# Altium footprint library CustomParts.PcbLib: 113 footprints (part 7 of 8)
Each footprint in its own frame and in the unit in brackets; x right, y up, seen from the top. Pads: shape width x height; smd on the part's side, far side on the other; paste and mask are expansions set on the pad; w line width, h text height; cw(c..) or ccw(c..) is an arc to the next point about the centre after c.
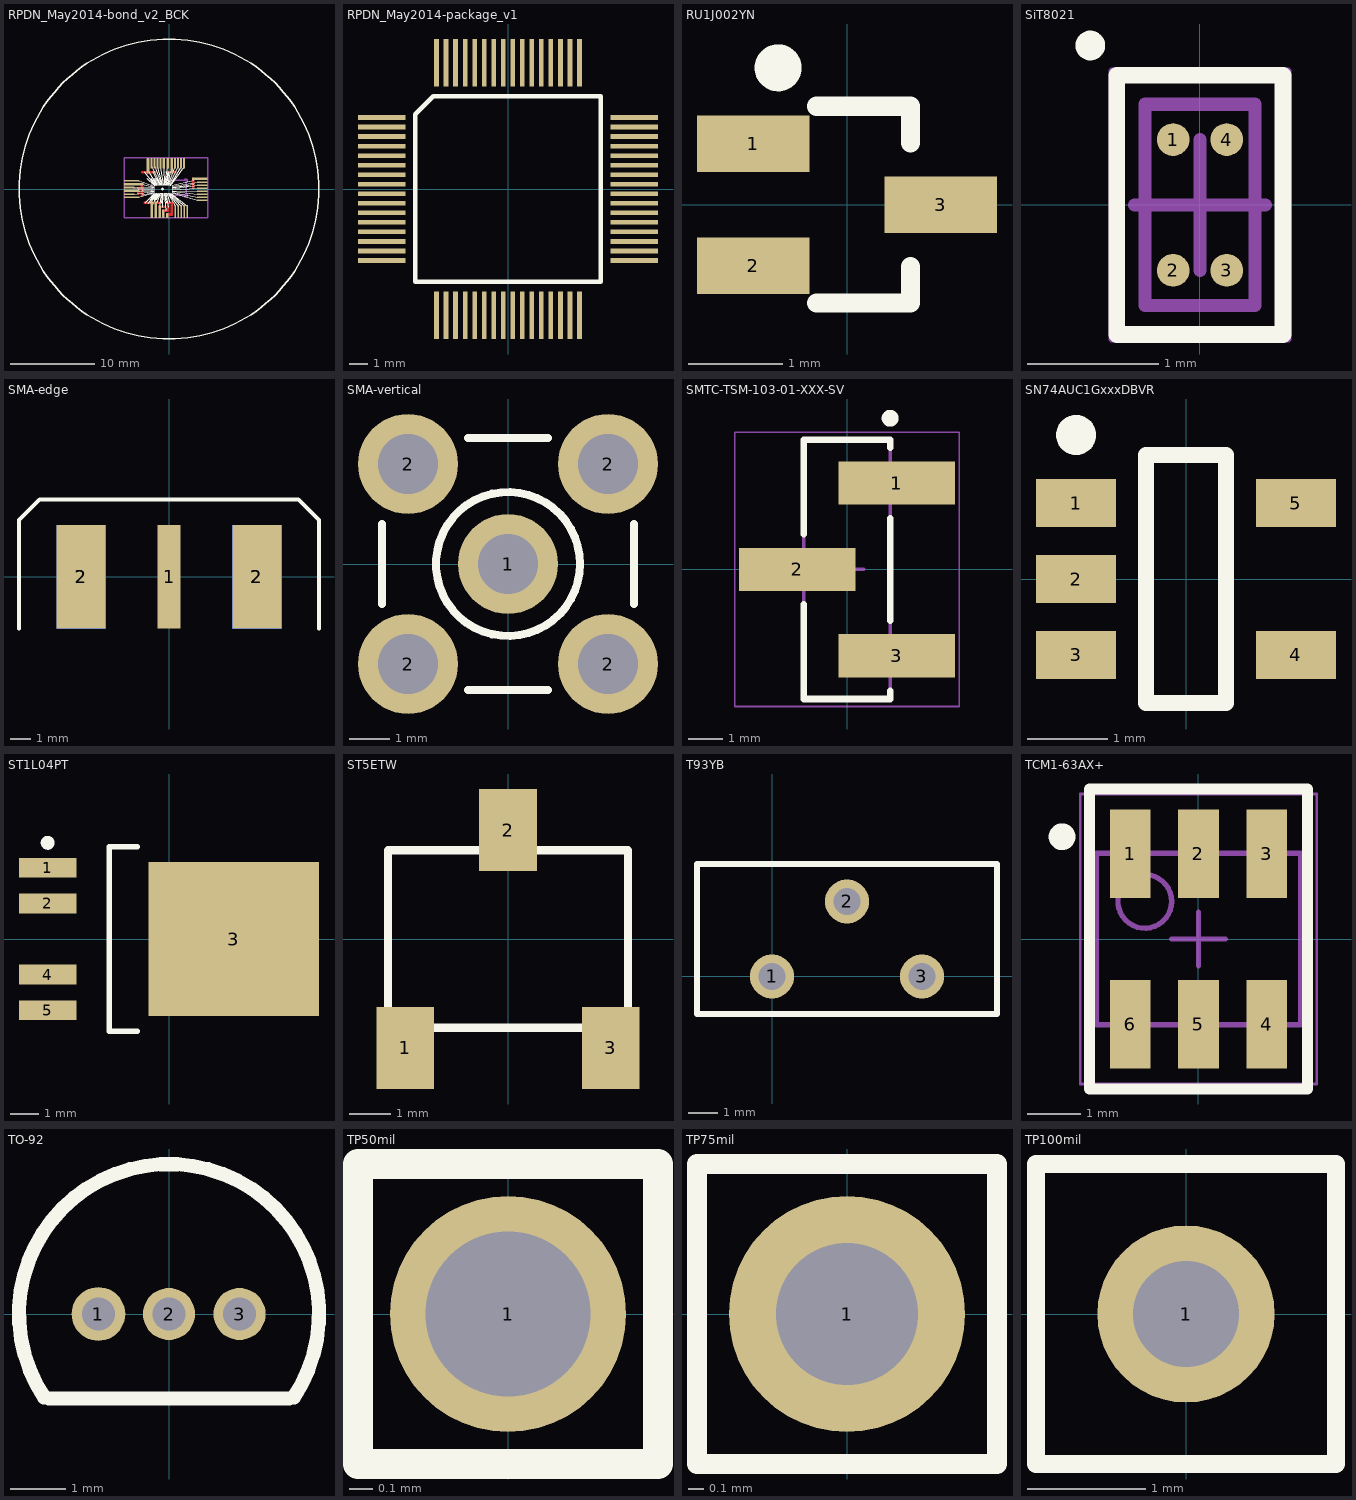
[diagram p6: the footprints below, top view; thin cyan lines are the x and y axes]

## RPDN_May2014-bond_v2_BCK [mil]
pads (96):
  rrect50% 3.15x3.15 on Mech13 paste+0 mask+0: 1(-70,17) 2(-70,13.06) 3(-70,9.13) 4(-70,5.19) 5(-70,1.25) 6(-70,-2.69) 7(-70,-6.62) 8(-70,-10.56) 9(-70,-14.5) 10(-70,-18.43) 11(-66.06,-18.43) 12(-62.13,-18.43) 13(-58.19,-18.43) 14(-54.25,-18.43) 15(-50.31,-18.43) 16(-46.38,-18.43) 17(-42.44,-18.43) 18(-38.5,-18.43) 19(-34.57,-18.43) 20(-30.63,-18.43) 21(-26.69,-18.43) 22(-22.76,-18.43) 23(-18.82,-18.43) 24(-14.88,-18.43) 25(-10.94,-18.43) 26(-7.01,-18.43) 27(-3.07,-18.43) 28(0.87,-18.43) 29(4.8,-18.43) 30(8.74,-18.43) 31(13.46,-18.43) 32(13.46,-14.5) 33(13.46,-10.56) 34(13.46,-6.62) 35(13.46,-2.69) 36(13.46,1.25) 37(13.46,5.19) 38(13.46,9.13) 39(13.46,13.06) 40(13.46,17) 41(8.74,17) 42(4.8,17) 43(0.87,17) 44(-3.07,17) 45(-7.01,17) 46(-10.94,17) 47(-14.88,17) 48(-18.82,17) 49(-22.76,17) 50(-26.69,17) 51(-30.63,17) 52(-34.57,17) 53(-38.5,17) 54(-42.44,17) 55(-46.38,17) 56(-50.31,17) 57(-54.25,17) 58(-58.19,17) 59(-62.13,17) 60(-66.06,17)
  rrect50% 70x8 smd mask+0: 2(-175,39) 10(-175,-39)
  rrect50% 90x12 smd mask+0: 3(-165,23)
  rrect50% 50x8 smd mask+0: 4(-185,7) 8(-185,-25) 31(155,-52) 32(155,-38) 33(155,-24) 34(155,-10) 35(155,4) 36(155,18) 39(155,32)
  rrect50% 72x12 smd mask+0: 5(-174,-9) 38(144,48)
  rrect50% 12x76 smd mask+0: 11(-80,-97) 18(-62,-97)
  rrect50% 12x58 smd mask+0: 19(-44,-106)
  rrect50% 12x40 smd mask+0: 22(-26,-115)
  rrect50% 12x22 smd mask+0: 23(-8,-124)
  rrect50% 8x60 smd mask+0: 26(29,-105) 27(43,-105) 28(57,-105) 29(71,-105) 30(85,-105)
  rrect50% 8x50 smd mask+0: 41(70,120) 42(56,120) 43(42,120) 44(28,120) 50(-40,120) 51(-54,120) 52(-68,120) 53(-82,120)
  rrect50% 12x72 smd mask+0: 45(12,109) 55(-98,109)
  rrect50% 12x50 smd mask+0: 48(-6,120) 49(-24,120)
Top Layer:
  lines w12: -144,-22 -144,4 ; -126,-28 -126,23 ; -125,79 -65,79 ; -113,-65 -80,-65 ; -62,-65 -31,-65 ; -44,-83 -25,-83 ; -26,-101 -5,-101 -5,-83 ; -12,79 28,79 ; -11,-65 13,-65 13,-119 -8,-119 ; 114,6 114,48
Top Overlay:
  circle w6: c0,0 r700
  circle w6: c-30,0 r3
  lines w1.5: -165,-24 -70,-11 ; -165,7 -70,5 ; -145,-39 -70,-18 ; -145,40 -70,13 ; -144,-11 -70,-7 ; -144,0 -70,1 ; -126,-5 -70,-3 ; -126,22 -70,9 ; -125,-27 -70,-14 ; -115,80 -66,17 ; -112,-65 -66,-19 ; -105,50 -70,17 ; -96,-66 -58,-19 ; -95,80 -58,17 ; -88,-49 -62,-19 ; -86,-65 -54,-19 ; -85,50 -62,17 ; -81,105 -39,17 ; -79,-75 -46,-19 ; -77,80 -46,17 ; -72,50 -54,17 ; -69,-50 -50,-19 ; -67,50 -50,17 ; -67,105 -35,17 ; -58,50 -42,17 ; -57,-50 -42,-19 ; -55,-65 -38,-19 ; -54,105 -31,17 ; -44,-84 -34,-19 ; -40,105 -27,17 ; -35,-65 -30,-19 ; -30,-84 -26,-19 ; -24,105 -23,17 ; -22,-19 -15,-101 ; -19,-19 -12,-65 ; -19,17 -6,105 ; -15,-19 -4,-85 ; -15,17 -4,80 ; -11,-19 4,-65 ; -11,17 2,80 ; -7,-19 29,-80 ; -7,17 9,80 ; -3,-19 43,-80 ; -3,17 28,105 ; 1,-19 58,-80 ; 1,17 42,105 ; 5,-19 71,-80 ; 5,17 56,105 ; 9,-19 85,-80 ; 9,17 70,105 ; 14,-18 135,-52 ; 14,-15 135,-38 ; 14,-11 135,-24 ; 14,-7 135,-10 ; 14,-3 135,4 ; 14,1 135,17 ; 14,5 90,15 ; 14,9 115,23 ; 14,13 135,32 ; 14,17 115,40
Top Solder:
  rectangle: 83,-19 89,28
  rectangle: 68,-33 83,43
  rectangle: 68,-135 89,-39
  rectangle: 68,49 89,145
  rectangle: -210,-135 68,145
  rectangle: 89,-135 180,145
Mechanical 13:
  lines w6: 71,-36 86,-36 86,-21 ; 71,46 86,46 86,31 ; -210,-135 180,-135 180,145 -210,145 -210,-135 ; -80,-30 -80,40 80,40 80,-30 -80,-30

## RPDN_May2014-package_v1 [mil]
pads (64):
  rect 100x10 smd mask+6: 1(-265,150) 2(-265,130) 3(-265,110) 4(-265,90) 5(-265,70) 6(-265,50) 7(-265,30) 8(-265,10) 9(-265,-10) 10(-265,-30) 11(-265,-50) 12(-265,-70) 13(-265,-90) 14(-265,-110) 15(-265,-130) 16(-265,-150) 33(265,-150) 34(265,-130) 35(265,-110) 36(265,-90) 37(265,-70) 38(265,-50) 39(265,-30) 40(265,-10) 41(265,10) 42(265,30) 43(265,50) 44(265,70) 45(265,90) 46(265,110) 47(265,130) 48(265,150)
  rect 10x100 smd mask+6: 17(-150,-265) 18(-130,-265) 19(-110,-265) 20(-90,-265) 21(-70,-265) 22(-50,-265) 23(-30,-265) 24(-10,-265) 25(10,-265) 26(30,-265) 27(50,-265) 28(70,-265) 29(90,-265) 30(110,-265) 31(130,-265) 32(150,-265) 49(150,265) 50(130,265) 51(110,265) 52(90,265) 53(70,265) 54(50,265) 55(30,265) 56(10,265) 57(-10,265) 58(-30,265) 59(-50,265) 60(-70,265) 61(-90,265) 62(-110,265) 63(-130,265) 64(-150,265)
Top Overlay:
  lines w10: -195,-195 195,-195 195,195 -157,195 -195,157 -195,-195

## RU1J002YN [mm] "MOSFET N-Channel, Logic Level, 0.9 V Drive, UMT3F Package"
height 1.05
pads (3):
  rect 1.2x0.6 smd: 1(-1,0.65) 2(-1,-0.65) 3(1,0)
Top Overlay:
  circle w0.25: c-0.735,1.46 r0.125
  lines w0.203: -0.325,-1.05 0.675,-1.05 0.675,-0.66 ; -0.325,1.05 0.675,1.05 0.675,0.66
3D body: height 1.05, standoff 0, extent -0.675,-1.05 0.675,1.05

## SiT8021 [mm] "BGA, 4-Leads, Body 0.84x1.54mmx0.60mm, Pitch 0.41mm"
height 0.6
pads (4):
  round 0.25 smd mask+0.05: 1(-0.205,0.5) 2(-0.205,-0.5) 3(0.205,-0.5) 4(0.205,0.5)
Top Overlay:
  circle w0.127: c-0.838,1.219 r0.05
  lines w0.127: -0.635,-0.991 0.635,-0.991 0.635,0.991 -0.635,0.991 -0.635,-0.991
Mechanical 13:
  lines w0.1: -0.42,-0.77 0.42,-0.77 0.42,0.77 -0.42,0.77 -0.42,-0.77
Mechanical 15:
  lines w0.05: -0.675,-1.025 0.675,-1.025 0.675,1.025 -0.675,1.025 -0.675,-1.025
  lines w0.1: -0.5,0 0.5,0 ; 0,-0.5 0,0.5
3D body "SiT8021_2.step": height 0.6, standoff 0, extent -0.42,-0.77 0.42,0.77

## SMA-edge [mil]
pads (5):
  rect 45x200 smd: 1(0,0)
  rect 95x200 smd: 2(-170,0) 2(170,0)
  rect 95x200 smd far side: 2(-170,0) 2(170,0)
Top Overlay:
  lines w8: -290,-100 -290,110 -250,150 250,150 290,110 290,-100

## SMA-vertical [mm]
pads (5):
  round 2.5 hole 1.5: 1(0,0) 2(-2.5,-2.5) 2(-2.5,2.5) 2(2.5,-2.5) 2(2.5,2.5)
Top Overlay:
  circle w0.203: c0,0 r1.8
  lines w0.203: -3.15,-1 -3.15,1 ; -1,-3.15 1,-3.15 ; -1,3.15 1,3.15 ; 3.15,-1 3.15,1
Mechanical 1:
  circle w0.025: c0,0 r1.8
  circle w0.025: c0,0 r0.2
  circle w0.025: c0,0 r1.05

## SMTC-TSM-103-01-XXX-SV [mm] "Single Row SMT Assembly, 3 Pins, Vertical, 2.54mm Pitch, Male"
height 10.105
pads (3):
  rect 3.43x1.27 smd: 1(1.46,2.54) 2(-1.46,0) 3(1.46,-2.54)
Top Overlay:
  circle w0.25: c1.271,4.445 r0.125
  lines w0.2: -1.27,-1.035 -1.27,-3.81 1.27,-3.81 1.27,-3.575 ; -1.27,1.035 -1.27,3.81 1.27,3.81 1.27,3.575 ; 1.27,-1.505 1.27,1.505
Mechanical 13:
  lines w0.1: -1.27,-3.81 1.27,-3.81 1.27,3.81 -1.27,3.81 -1.27,-3.81
Mechanical 15:
  lines w0.05: -3.3,-4.035 -3.3,4.035 3.3,4.035 3.3,-4.035 -3.3,-4.035
  lines w0.1: -0.5,0 0.5,0 ; 0,-0.5 0,0.5
3D body "TSM-103-01-L-SV.stp": height 9.65, standoff 0, extent -2.642,-3.81 2.642,3.81

## SN74AUC1GxxxDBVR [mm] "SOT23, 5-Leads, Body 2.90x2.80mm, Pitch 0.95mm, IPC Medium Density"
height 1.45
pads (5):
  rect 1x0.6 smd: 1(-1.375,0.95) 2(-1.375,0) 3(-1.375,-0.95) 4(1.375,-0.95) 5(1.375,0.95)
Top Overlay:
  circle w0.25: c-1.375,1.8 r0.125
  lines w0.2: -0.5,-1.55 0.5,-1.55 0.5,1.55 -0.5,1.55 -0.5,-1.55
3D body: height 1.45, standoff 0.15, extent -0.875,-1.525 0.875,1.525

## ST1L04PT [mm] "Altium Generated PPAK"
height 2.4
pads (5):
  rect 2.05x0.7 smd: 1(-4.35,2.54) 2(-4.35,1.27) 4(-4.35,-1.27) 5(-4.35,-2.54)
  rect 6.1x5.5 smd: 3(2.3,0)
Top Overlay:
  circle w0.25: c-4.35,3.44 r0.125
  lines w0.203: -1.15,-3.3 -2.15,-3.3 -2.15,3.3 -1.15,3.3
3D body: height 2.4, standoff 0.9, extent -2.15,-3.3 4.05,3.3

## ST5ETW [mm] "Nidec Copal Electronics ST-5 W Series Trimmers"
pads (3):
  rect 1.4x2 smd: 1(-2.5,-2.65) 2(0,2.65) 3(2.5,-2.65)
Top Overlay:
  lines w0.203: -2.921,-2.159 -2.921,2.159 2.921,2.159 2.921,-2.159 -2.921,-2.159
3D body: height 6.75, standoff 0, extent -2.921,-2.159 2.921,2.159

## T93YB [mm] "Vishay Sfernice 3/8\" Square Multi-Turn Cermet Trimmer"
pads (3):
  round 1.5 hole 0.9: 1(0,0) 2(2.54,2.54) 3(5.08,0)
Top Overlay:
  lines w0.203: -2.54,-1.27 -2.54,3.81 7.62,3.81 7.62,-1.27 -2.54,-1.27
3D body: height 10.16, standoff 0, extent -2.54,-1.27 7.62,3.81

## TCM1-63AX+ [mm] "TCM1-63AX+"
height 4.06
pads (6):
  rect 0.76x1.65 smd: 1(-1.27,1.59) 2(0,1.59) 3(1.27,1.59) 4(1.27,-1.59) 5(0,-1.59) 6(-1.27,-1.59)
Top Overlay:
  circle w0.25: c-2.54,1.905 r0.125
  lines w0.2: -2.032,-2.794 2.032,-2.794 2.032,2.794 -2.032,2.794 -2.032,-2.794
Mechanical 13:
  circle w0.1: c-1,0.7 r0.5
  lines w0.1: -1.9,-1.6 1.9,-1.6 1.9,1.6 -1.9,1.6 -1.9,-1.6
Mechanical 15:
  lines w0.05: -2.2,-2.7 2.2,-2.7 2.2,2.7 -2.2,2.7 -2.2,-2.7
  lines w0.1: -0.5,0 0.5,0 ; 0,-0.5 0,0.5
3D body: height 4.06, standoff 0, extent -1.9,-1.61 1.9,1.59

## TO-92 [mil] "TO-92 Standard Footprint (50 mil pitch)"
pads (3):
  round 38 hole 23.62: 1(-50,0)
  round 37 hole 23.62: 2(0,0) 3(50,0)
Top Overlay:
  lines w10: -88.45,-58.96 cw(c0,0) 88.45,-58.96 ; -85,-60 85,-60

## TP50mil [mm] "0.7 mm / 1.0 mm Round Hole, 50 mil Silk Screen Pitch"
pads (1):
  round 1 hole 0.7: 1(0,0)
Top Overlay:
  lines w0.127: -0.635,-0.635 -0.635,0.635 0.635,0.635 0.635,-0.635 -0.635,-0.635

## TP75mil [mm] "0.9 mm / 1.5 mm Round Hole, 75 mil Silk Screen Pitch"
pads (1):
  round 1.5 hole 0.9: 1(0,0)
Top Overlay:
  lines w0.127: -0.953,-0.953 -0.953,0.953 0.953,0.953 0.953,-0.953 -0.953,-0.953

## TP100mil [mm] "0.9 mm / 1.5 mm Round Hole, 100 mil Silk Screen Pitch"
pads (1):
  round 1.5 hole 0.9: 1(0,0)
Top Overlay:
  lines w0.152: -1.27,-1.27 -1.27,1.27 1.27,1.27 1.27,-1.27 -1.27,-1.27